# Altium footprint library CON EHF-120-01-x-D-SM-LC.PcbLib: 1 footprints
Each footprint in its own frame and in the unit in brackets; x right, y up, seen from the top. Pads: shape width x height; smd on the part's side, far side on the other; paste and mask are expansions set on the pad; w line width, h text height; cw(c..) or ccw(c..) is an arc to the next point about the centre after c.
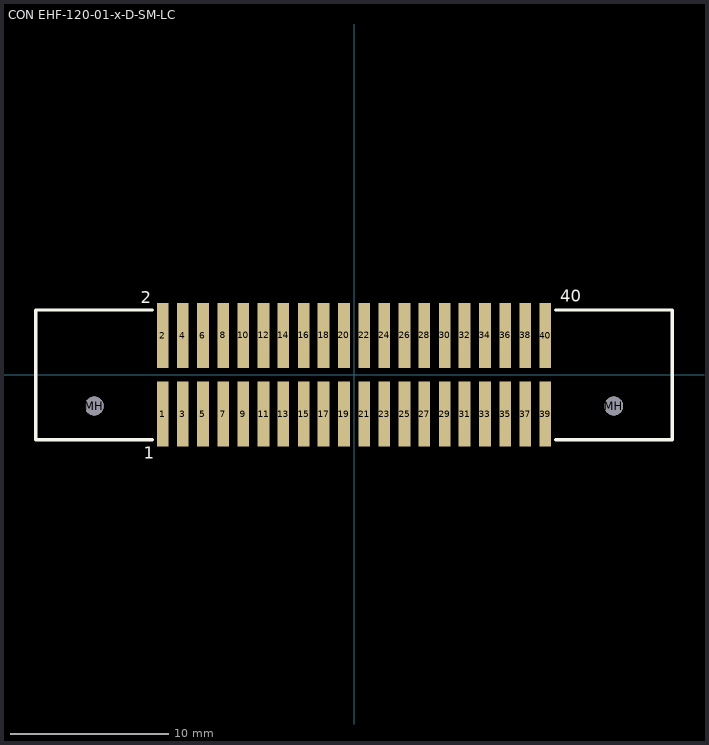
[diagram p0: the footprint, top view; thin cyan lines are the x and y axes]

## CON EHF-120-01-x-D-SM-LC [mil] "Samtec EHF-120-01-x-D-SM-LC Surface Mount Connector"
height 445
pads (42):
  rect 29x161 smd: 1(-475,-97.5) 2(-475,97.5) 3(-425,-97.5) 4(-425,97.5) 5(-375,-97.5) 6(-375,97.5) 7(-324.46,-97.35) 8(-324.46,97.65) 9(-275.19,-97.35) 10(-275.19,97.65) 11(-224.63,-97.35) 12(-224.63,97.65) 13(-175.37,-97.35) 14(-175.37,97.65) 15(-124.81,-97.35) 16(-124.81,97.65) 17(-75.54,-97.35) 18(-75.54,97.65) 19(-24.98,-97.35) 20(-24.98,97.65) 21(25.58,-97.35) 22(25.58,97.65) 23(74.85,-97.35) 24(74.85,97.65) 25(125.41,-97.35) 26(125.41,97.65) 27(174.68,-97.35) 28(174.68,97.65) 29(225.24,-97.35) 30(225.24,97.65) 31(274.5,-97.35) 32(274.5,97.65) 33(325.06,-97.35) 34(325.06,97.65) 35(375.62,-97.35) 36(375.62,97.65) 37(424.89,-97.35) 38(424.89,97.65) 39(475,-97.5) 40(475,97.5)
  round 47 hole 47 unplated: MH(-645,-77.5) MH(645,-77.5)
TopOverlay:
  lines w8: -500,-161 -790,-161 -790,161 -500,161 ; 500,-161 790,-161 790,161 500,161
  text "2" at -529,178 h30
  text "40" at 512,182 h30
  text "1" at -522,-208 h30
3D body: height 451.89, standoff 0.6, extent -785,-148 785,148